# Altium footprint library WSLP5931.PcbLib: 1 footprints
Each footprint in its own frame and in the unit in brackets; x right, y up, seen from the top. Pads: shape width x height; smd on the part's side, far side on the other; paste and mask are expansions set on the pad; w line width, h text height; cw(c..) or ccw(c..) is an arc to the next point about the centre after c.
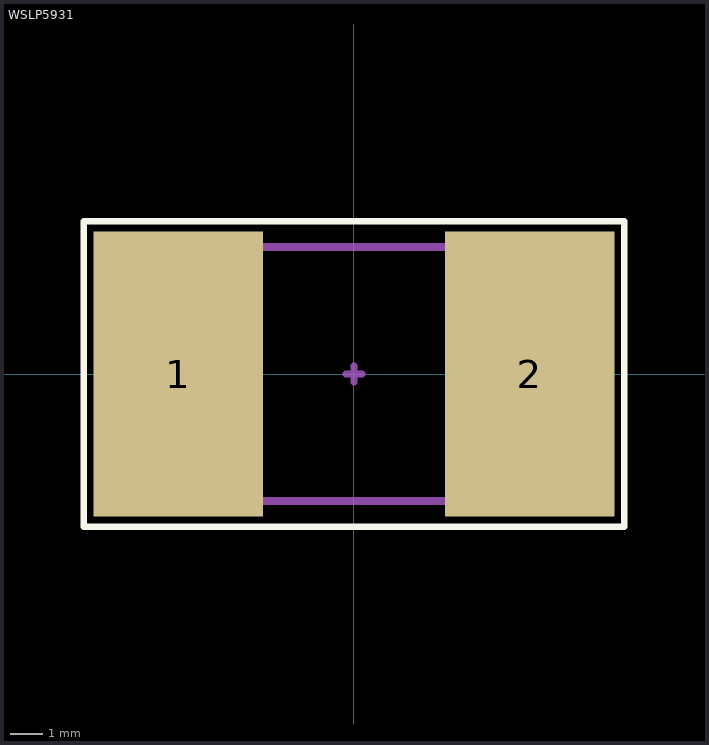
[diagram p0: the footprint, top view; thin cyan lines are the x and y axes]

## WSLP5931 [mm] "Footprint for Vishay Dale WSLP5931 Series Current Sense Resistors"
pads (2):
  rect 5.2x8.75 smd: 1(-5.4,0) 2(5.4,0)
Top Overlay:
  lines w0.2: -8.3,-4.7 8.3,-4.7 8.3,4.7 -8.3,4.7 -8.3,-4.7
Top Designator:
  text ".Designator" at -7.618,-0.508 h1.52
Mechanical 13:
  lines w0.254: -7.5,-3.9 7.5,-3.9 7.5,3.9 -7.5,3.9 -7.5,-3.9
Mechanical 15:
  lines w0.2: -0.254,0 0.254,0 0,0 0,-0.254 0,0.254
3D body "WSLP59312L000FEA.stp": height 0.89, standoff 0, extent -7.5,-3.875 7.5,3.875